# Altium schematic symbol library lib_ole.SchLib: 1 symbol
Pins are listed as number, name and electrical type; pins without a type are passive.

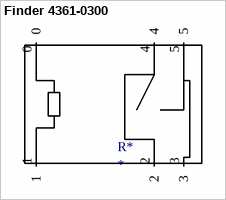
[diagram p0: symbol Finder 4361-0300]

## Finder 4361-0300
designator R*
1 Schließer, 16A
footprint Finder 436190120300 (Relais 5mm); pin to pad 0>1 1>2 2>3 3>4 4>5 5>6
pins: 0, 1, 2, 3, 4, 5